# EAGLE library part 22-?-06 (library con-molex_MOD)
CONNECTOR wire to board 2.54 mm (.1 inch) pitch header
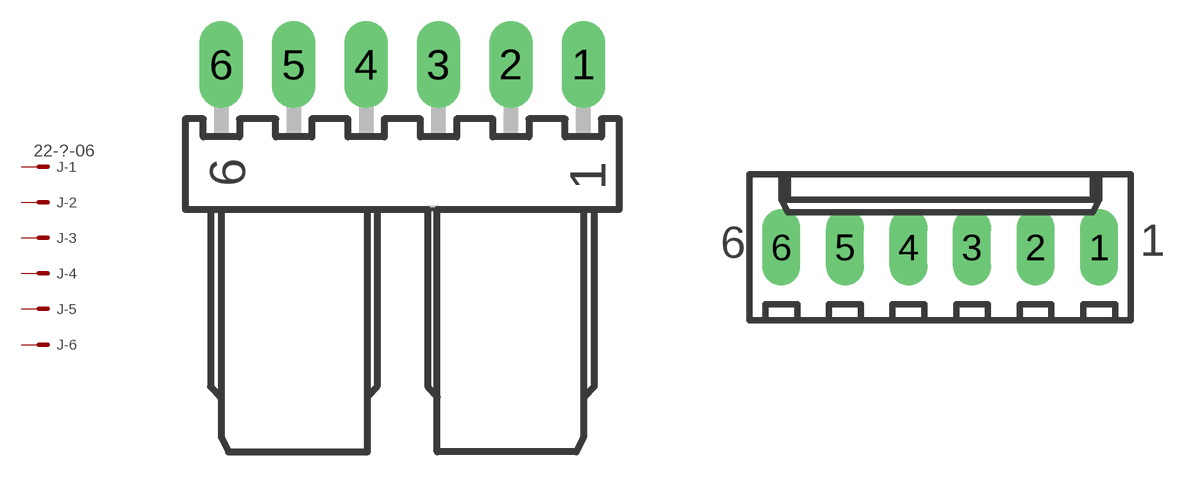
[diagram p24: symbol with the pads of 7395-06; footprints 7395-06, 6410-06]

Designator prefix J; gates -1=MV -2=M -3=M -4=M -5=M -6=M

## 22-05-7068-06 (OC_FARNELL: unknown; OC_NEWARK: unknown)  [7395-06]
1  -1:S  pas
2  -2:S  pas
3  -3:S  pas
4  -4:S  pas
5  -5:S  pas
6  -6:S  pas

## 22-27-2061-06 (OC_FARNELL: unknown; OC_NEWARK: unknown)  [6410-06]
Pads as for 7395-06

## Footprint 7395-06 (pad centres in mm)
MOLEX 2.54mm KK RA CONNECTOR Fixed Orientation
drill 1.016 long: 1 6.35,0; 2 3.81,0; 3 1.27,0; 4 -1.27,0; 5 -3.81,0; 6 -6.35,0

## Footprint 6410-06 (pad centres in mm)
MOLEX 2.54mm KK CONNECTOR
drill 1.016 long: 1 6.35,0; 2 3.81,0; 3 1.27,0; 4 -1.27,0; 5 -3.81,0; 6 -6.35,0